# Altium footprint library PcbLib1.PcbLib: 3 footprints
Each footprint in its own frame and in the unit in brackets; x right, y up, seen from the top. Pads: shape width x height; smd on the part's side, far side on the other; paste and mask are expansions set on the pad; w line width, h text height; cw(c..) or ccw(c..) is an arc to the next point about the centre after c.
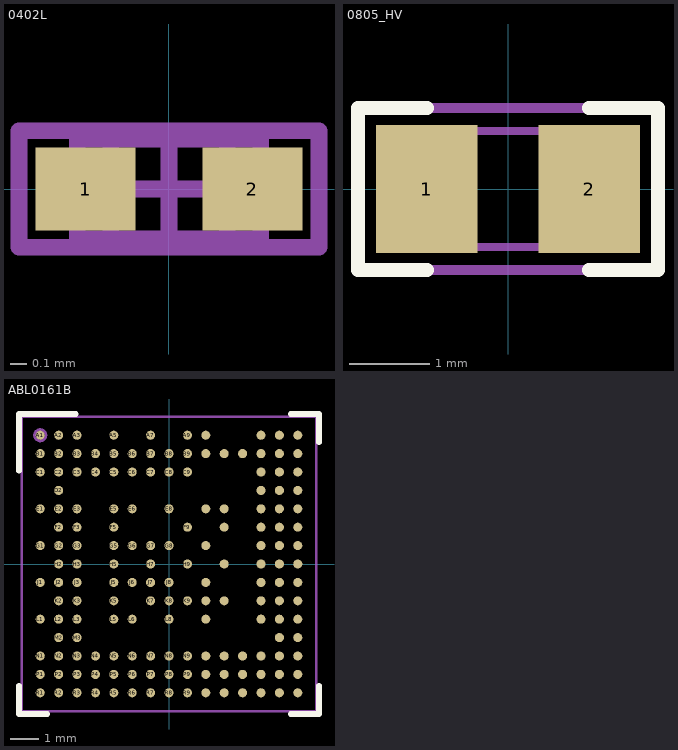
[diagram p0: the footprints below, top view; thin cyan lines are the x and y axes]

## 0402L [mm] "0402 from SM-752 data"
height 0.6
pads (2):
  rect 0.6x0.5 smd: 1(-0.5,0) 2(0.5,0)
Mechanical 5:
  lines w0.1: -0.9,-0.35 0.9,-0.35 0.9,0.35 -0.9,0.35 -0.9,-0.35
  text ".Designator" at 0.555,0.225 h0.43
Mechanical 13:
  lines w0.1: -0.35,-0.3 -0.35,0.3 ; 0.35,-0.3 0.35,0.3 ; -0.55,-0.3 -0.55,0.3 0.55,0.3 0.55,-0.3 -0.55,-0.3
Mechanical 15:
  lines w0.1: -0.3,0 0.3,0 ; 0,-0.3 0,0.3 ; -0.9,-0.35 -0.9,0.35 0.9,0.35 0.9,-0.35 -0.9,-0.35
3D body: height 0.6, standoff 0, extent -0.549,-0.299 -0.351,0.299
3D body: height 0.6, standoff 0, extent -0.349,-0.299 0.349,0.299
3D body: height 0.6, standoff 0, extent 0.351,-0.299 0.549,0.299

## 0805_HV [mil] "0805 with 30mil clearance between pads"
height 57.09
pads (2):
  rect 50x63 smd: 1(-40,0) 2(40,0)
Top Overlay:
  lines w7: -40,-40 -74,-40 -74,0 -74,40 -40,40 ; 40,-40 74,-40 74,0 74,40 40,40
Mechanical 5:
  lines w5: -74,-40 74,-40 74,40 -74,40 -74,-40
  text ".Designator" at -64,-17 h35
Mechanical 13:
  lines w3.94: -25.59,-28.54 -25.59,28.54 ; 25.59,-28.54 25.59,28.54 ; -43.31,-28.54 43.31,-28.54 43.31,28.54 -43.31,28.54 -43.31,-28.54
3D body: height 57.09, standoff 0, extent -43.29,-28.52 -25.61,28.52
3D body: height 57.09, standoff 0, extent -25.57,-28.52 25.57,28.52
3D body: height 57.09, standoff 0, extent 25.61,-28.52 43.29,28.52

## ABL0161B [mm] "BGA, 161-Balls, Body 10.4x10.4mm, Pitch 0.65mm"
height 1.17
pads (161):
  round 0.32 smd mask+0: A1(-4.55,4.55) A2(-3.9,4.55) A3(-3.25,4.55) A5(-1.95,4.55) A7(-0.65,4.55) A9(0.65,4.55) A10(1.3,4.55) A13(3.25,4.55) A14(3.9,4.55) A15(4.55,4.55) B1(-4.55,3.9) B2(-3.9,3.9) B3(-3.25,3.9) B4(-2.6,3.9) B5(-1.95,3.9) B6(-1.3,3.9) B7(-0.65,3.9) B8(0,3.9) B9(0.65,3.9) B10(1.3,3.9) B11(1.95,3.9) B12(2.6,3.9) B13(3.25,3.9) B14(3.9,3.9) B15(4.55,3.9) C1(-4.55,3.25) C2(-3.9,3.25) C3(-3.25,3.25) C4(-2.6,3.25) C5(-1.95,3.25) C6(-1.3,3.25) C7(-0.65,3.25) C8(0,3.25) C9(0.65,3.25) C13(3.25,3.25) C14(3.9,3.25) C15(4.55,3.25) D2(-3.9,2.6) D13(3.25,2.6) D14(3.9,2.6) D15(4.55,2.6) E1(-4.55,1.95) E2(-3.9,1.95) E3(-3.25,1.95) E5(-1.95,1.95) E6(-1.3,1.95) E8(0,1.95) E10(1.3,1.95) E11(1.95,1.95) E13(3.25,1.95) E14(3.9,1.95) E15(4.55,1.95) F2(-3.9,1.3) F3(-3.25,1.3) F5(-1.95,1.3) F9(0.65,1.3) F11(1.95,1.3) F13(3.25,1.3) F14(3.9,1.3) F15(4.55,1.3) G1(-4.55,0.65) G2(-3.9,0.65) G3(-3.25,0.65) G5(-1.95,0.65) G6(-1.3,0.65) G7(-0.65,0.65) G8(0,0.65) G10(1.3,0.65) G13(3.25,0.65) G14(3.9,0.65) G15(4.55,0.65) H2(-3.9,0) H3(-3.25,0) H5(-1.95,0) H7(-0.65,0) H9(0.65,0) H11(1.95,0) H13(3.25,0) H14(3.9,0) H15(4.55,0) J1(-4.55,-0.65) J2(-3.9,-0.65) J3(-3.25,-0.65) J5(-1.95,-0.65) J6(-1.3,-0.65) J7(-0.65,-0.65) J8(0,-0.65) J10(1.3,-0.65) J13(3.25,-0.65) J14(3.9,-0.65) J15(4.55,-0.65) K2(-3.9,-1.3) K3(-3.25,-1.3) K5(-1.95,-1.3) K7(-0.65,-1.3) K8(0,-1.3) K9(0.65,-1.3) K10(1.3,-1.3) K11(1.95,-1.3) K13(3.25,-1.3) K14(3.9,-1.3) K15(4.55,-1.3) L1(-4.55,-1.95) L2(-3.9,-1.95) L3(-3.25,-1.95) L5(-1.95,-1.95) L6(-1.3,-1.95) L8(0,-1.95) L10(1.3,-1.95) L13(3.25,-1.95) L14(3.9,-1.95) L15(4.55,-1.95) M2(-3.9,-2.6) M3(-3.25,-2.6) M14(3.9,-2.6) M15(4.55,-2.6) N1(-4.55,-3.25) N2(-3.9,-3.25) N3(-3.25,-3.25) N4(-2.6,-3.25) N5(-1.95,-3.25) N6(-1.3,-3.25) N7(-0.65,-3.25) N8(0,-3.25) N9(0.65,-3.25) N10(1.3,-3.25) N11(1.95,-3.25) N12(2.6,-3.25) N13(3.25,-3.25) N14(3.9,-3.25) N15(4.55,-3.25) P1(-4.55,-3.9) P2(-3.9,-3.9) P3(-3.25,-3.9) P4(-2.6,-3.9) P5(-1.95,-3.9) P6(-1.3,-3.9) P7(-0.65,-3.9) P8(0,-3.9) P9(0.65,-3.9) P10(1.3,-3.9) P11(1.95,-3.9) P12(2.6,-3.9) P13(3.25,-3.9) P14(3.9,-3.9) P15(4.55,-3.9) R1(-4.55,-4.55) R2(-3.9,-4.55) R3(-3.25,-4.55) R4(-2.6,-4.55) R5(-1.95,-4.55) R6(-1.3,-4.55) R7(-0.65,-4.55) R8(0,-4.55) R9(0.65,-4.55) R10(1.3,-4.55) R11(1.95,-4.55) R12(2.6,-4.55) R13(3.25,-4.55) R14(3.9,-4.55) R15(4.55,-4.55)
Top Overlay:
  lines w0.2: -5.3,-4.3 -5.3,-5.3 -4.3,-5.3 ; -5.3,3.3 -5.3,5.3 -3.3,5.3 ; 4.3,-5.3 5.3,-5.3 5.3,-4.3 ; 4.3,5.3 5.3,5.3 5.3,4.3
Mechanical 5:
  circle w0.1: c-4.55,4.55 r0.2
  lines w0.1: -5.2,-5.2 -5.2,5.2 5.2,5.2 5.2,-5.2 -5.2,-5.2
  text ".Designator" at 1.157,0.759 h1.02
3D body: height 1.17, standoff 0, extent -5.4,-5.4 5.4,5.4
3D body: height 1.17, standoff 0, extent 4.3,4.3 5.301,5.301